# EAGLE library part CC1190 (library rf)
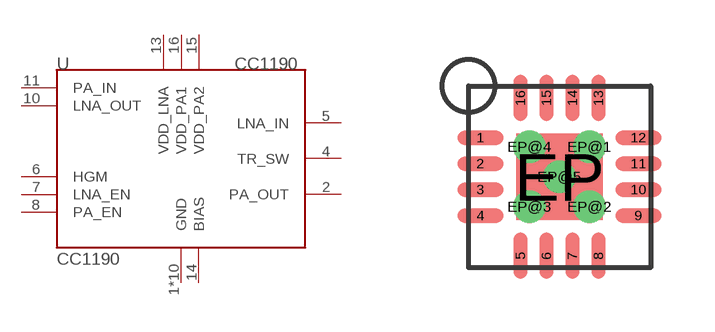
[diagram p3: symbol with the pads of RGV_S-PVQFN-N16; footprint RGV_S-PVQFN-N16]

Designator prefix U

## CC1190  [RGV_S-PVQFN-N16]
1  GND
2  PA_OUT
3  GND
4  TR_SW
5  LNA_IN
6  HGM
7  LNA_EN
8  PA_EN
9  GND
10  LNA_OUT
11  PA_IN
12  GND
13  VDD_LNA
14  BIAS
15  VDD_PA2
16  VDD_PA1
EP  GND
EP@1  GND
EP@2  GND
EP@3  GND
EP@4  GND
EP@5  GND

## Footprint RGV_S-PVQFN-N16 (pad centres in mm)
smd 1.15 x 0.35: 1 -1.975,0.975; 2 -1.975,0.325; 3 -1.975,-0.325; 4 -1.975,-0.975; 9 1.975,-0.975; 10 1.975,-0.325; 11 1.975,0.325; 12 1.975,0.975
smd 0.35 x 1.15: 5 -0.975,-1.975; 6 -0.325,-1.975; 7 0.325,-1.975; 8 0.975,-1.975; 13 0.975,1.975; 14 0.325,1.975; 15 -0.325,1.975; 16 -0.975,1.975
smd 2.16 x 2.16: EP 0,0
drill 0.3 pad 0.6: EP@1 0.75,0.75; EP@2 0.75,-0.75; EP@3 -0.75,-0.75; EP@4 -0.75,0.75; EP@5 0,0